# EAGLE library part BNO055 (library VicMaster)
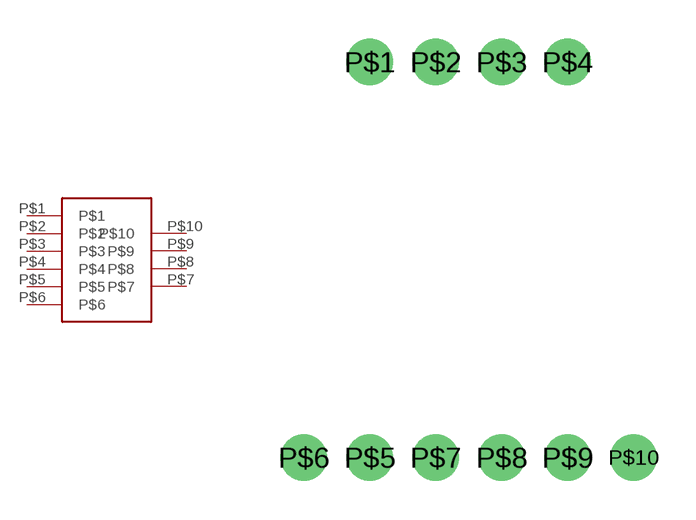
[diagram p3: symbol with the pads of BNO055; footprint BNO055]

Designator prefix -

## BNO055  [BNO055]
P$1  P$1
P$2  P$2
P$3  P$3
P$4  P$4
P$5  P$5
P$6  P$6
P$7  P$7
P$8  P$8
P$9  P$9
P$10  P$10

## Footprint BNO055 (pad centres in mm)
drill 0.889 pad 1.778: P$1 0,3.81; P$2 2.54,3.81; P$3 5.08,3.81; P$4 7.62,3.81; P$5 0,-11.43; P$6 -2.54,-11.43; P$7 2.54,-11.43; P$8 5.08,-11.43; P$9 7.62,-11.43; P$10 10.16,-11.43